# Altium footprint library CONN.PcbLib: 3 footprints
Each footprint in its own frame and in the unit in brackets; x right, y up, seen from the top. Pads: shape width x height; smd on the part's side, far side on the other; paste and mask are expansions set on the pad; w line width, h text height; cw(c..) or ccw(c..) is an arc to the next point about the centre after c.
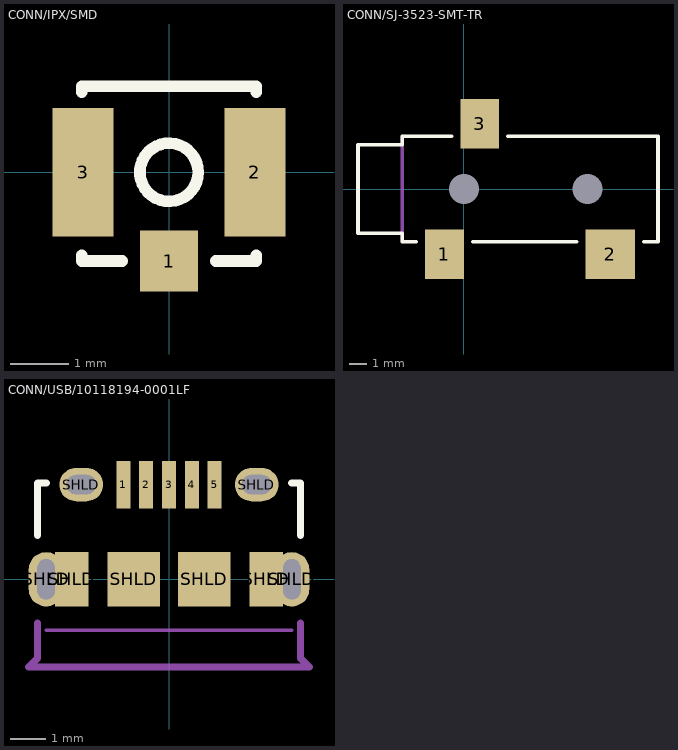
[diagram p0: the footprints below, top view; thin cyan lines are the x and y axes]

## CONN/IPX/SMD [mm]
pads (3):
  rect 1x1.05 smd: 1(0,-1.525)
  rect 1.05x2.2 smd: 2(1.475,0) 3(-1.475,0)
Top Overlay:
  circle w0.2: c0,0 r0.5
  lines w0.2: -1.5,-1.424 -1.5,-1.524 -0.8,-1.524 ; -1.5,1.376 -1.5,1.476 1.5,1.476 1.5,1.376 ; 0.8,-1.524 1.5,-1.524 1.5,-1.424
3D body "1909763.STEP": height 1.25, standoff -0.03, extent -1.5,-1.55 1.5,1.3

## CONN/SJ-3523-SMT-TR [mm] "3.50mm (0.141\", 1/8\", Mini Plug) - Headphone Phone Jack Stereo Connector Solder"
pads (5):
  rect 2.2x2.8 smd: 1(-1.1,-3.7) 3(0.9,3.7)
  rect 2.8x2.8 smd: 2(8.3,-3.7)
  rect 0x0 hole 1.7 unplated: HOLD(0,0) HOLD(7,0)
Top Overlay:
  lines w0.203: -2.7,-3 -3.5,-3 -3.5,-2.5 -6,-2.5 -6,2.5 -3.5,2.5 -3.5,3 -0.7,3 ; 0.5,-3 6.4,-3 ; 2.5,3 11,3 11,-3 10.2,-3
Mechanical 1:
  lines w0.203: -3.5,-3 -3.5,3
  text "PCB END" at -4,1 h0.5
3D body "sj-3523-smt.stp": height 5, standoff -0.8, extent -6,-4.5 11,4.5

## CONN/USB/10118194-0001LF [mm] "USB - micro B USB 2.0 Receptacle Connector 5 Position Surface Mount, Right Angle, Horizontal"
pads (13):
  rect 0.4x1.35 smd: 1(-1.3,2.7) 2(-0.65,2.7) 3(0,2.7) 4(0.65,2.7) 5(1.3,2.7)
  oval 1x1.55 hole 0.5 slot 1.15 at 90 deg: SHLD(-3.5,0) SHLD(3.5,0)
  rect 0.95x1.55 smd: SHLD(-2.775,0) SHLD(2.775,0)
  oval 1.25x0.95 hole 0.55 slot 0.85 at 0 deg: SHLD(-2.5,2.7) SHLD(2.5,2.7)
  rect 1.5x1.55 smd: SHLD(-1,0) SHLD(1,0)
Top Overlay:
  lines w0.203: -3.75,1.25 -3.75,2.75 -3.5,2.75 ; 3.5,2.75 3.75,2.75 3.75,1.25
Mechanical 1:
  lines w0.1: -3.5,-1.45 3.5,-1.45
  lines w0.203: -3.75,-1.25 -3.75,-2.25 -4,-2.5 4,-2.5 3.75,-2.25 3.75,-1.25
  text "PCB END" at -0.975,-1.975 h0.5
3D body "User Library-MicroUSB-B_Molex_105017-0001.step": height 2.66, standoff -0.64, extent -4.1,-2.58 4.1,2.85